# Altium schematic symbol library PASSIVES-RES.SCHLIB: 1 symbol
Pins are listed as number, name and electrical type; pins without a type are passive.

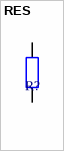
[diagram p0: symbol RES]

## RES
designator R?
pins: 1, 2